# Altium footprint library SNP411-9.PcbLib: 1 footprints
Each footprint in its own frame and in the unit in brackets; x right, y up, seen from the top. Pads: shape width x height; smd on the part's side, far side on the other; paste and mask are expansions set on the pad; w line width, h text height; cw(c..) or ccw(c..) is an arc to the next point about the centre after c.
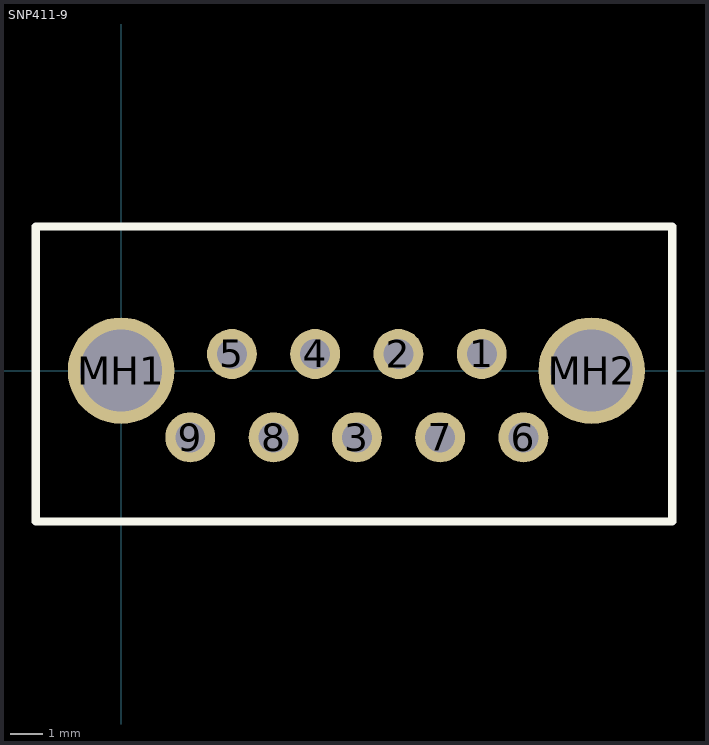
[diagram p0: the footprint, top view; thin cyan lines are the x and y axes]

## SNP411-9 [mil]
pads (11):
  round 60 hole 36: 1(433.07,20.08) 2(333.07,20.08) 3(283.07,-79.92) 4(233.07,20.08) 5(133.07,20.08) 6(483.07,-79.92) 7(383.07,-79.92) 8(183.07,-79.92) 9(83.07,-79.92)
  round 128 hole 98.43: MH1(0,0) MH2(564.96,0)
Top Overlay:
  circle w7.87: c0,0 r51.18
  circle w7.87: c564.96,0 r51.18
  lines w10: -102.36,-181.1 661.71,-181.1 661.71,173.23 -102.36,173.23 -102.36,-181.1
3D body "SNP411-9RP31.stp": height 311.02, standoff -114.37, extent -107.71,-181.88 667.88,440.17